# Altium schematic symbol library Fairchild PMOS - DPAK.SchLib: 1 symbol
Pins are listed as number, name and electrical type; pins without a type are passive.

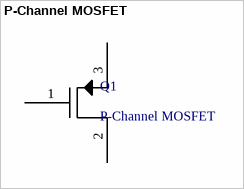
[diagram p0: symbol P-Channel MOSFET]

## P-Channel MOSFET
designator Q1
footprint FDD6637 PMOS - DPAK
pins: 1, 2, 3